# Altium schematic symbol library CONNECTOR.SchLib: 11 symbols
Pins are listed as number, name and electrical type; pins without a type are passive.

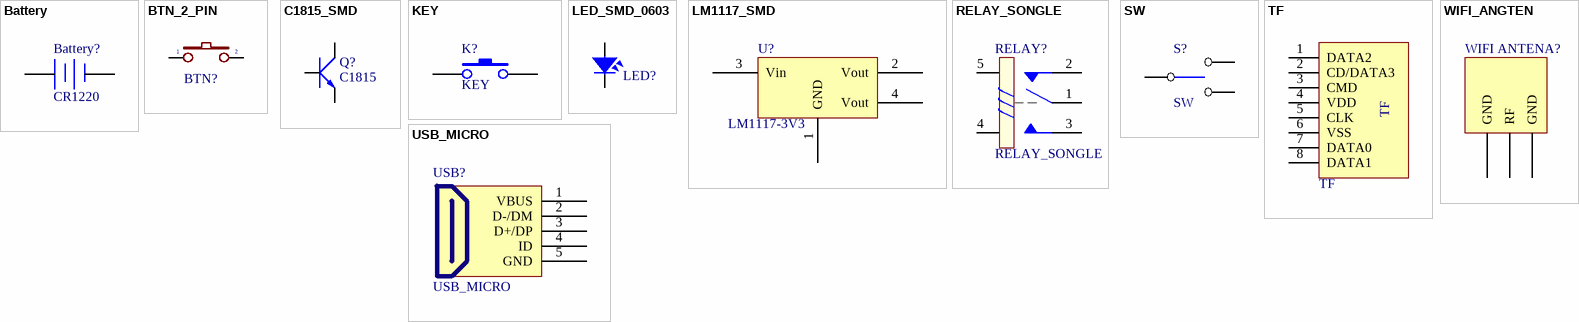
[diagram p0: symbols Battery to WIFI_ANGTEN]

## Battery
designator Battery?, comment CR1220
footprint CR1220
pins: 1, 2

## BTN_2_PIN
designator BTN?  (value not drawn)
Tactile Switch (6mm x 6mm Radial Models); Value: Switch tact 2 pins; URL: http://thegioiic.com/products/nut-nhan-2-chan-vuong-6x6x4mm
footprint BUTTON_SMD (SW button 4pin, 250 x250 mil)
pins: 1, 2

## C1815_SMD
designator Q?, comment C1815
NPN 600mW, ECB; Value: C1815
pins: 1 B, 2 E, 3 C

## KEY
designator K?
footprint KEY
pins: 1, 2

## LED_SMD_0603
designator LED?, comment LED  (value not drawn)
LED Single colour Green and Red; Value: LED 3 ly Single Colour
footprint LED_SMD_0603_RED
footprint LED_SMD_0603_BLUE (C72041)
footprint LED_SMD_0603_YELLOW (C72038)
pins: 1, 2

## LM1117_SMD
designator U?, comment LM1117-3V3
footprint LM1117_SMD (SOT223, 4-Leads, Body 6.5x3.5mm, Pitch 2.3mm, Lead Span 7mm, IPC Medium Density)
pins: 1 GND, 2 Vout, 3 Vin, 4 Vout

## RELAY_SONGLE
designator RELAY?
RELAY SONGLE 5V
footprint RELAY_SONGLE
pins: 1, 2, 3, 4, 5

## SW
designator S?
footprint SW
pins: 1, 2, 3

## TF
designator TF?
footprint TF
pins: 1 DATA2, 2 CD/DATA3, 3 CMD, 4 VDD, 5 CLK, 6 VSS, 7 DATA0, 8 DATA1

## USB_MICRO
designator USB?
USB MICRO
footprint USB_Micro
pins: 1 VBUS, 2 D-/DM, 3 D+/DP, 4 ID, 5 GND

## WIFI_ANGTEN
designator WIFI ANTENA?  (value not drawn)
RF ANGTEN; Designed by: VanDungEvn; Value: CD4017
footprint ANTENA_SMA (Connector; Header; 2 Position)
pins: 1 GND, 2 RF, 3 GND